# EAGLE library part AP65200 (library we-power)
Diodes AP65200 Step-Down (340kHz, 2A, 4.7-18V input) 5.0V - R1=44.2k, R2=10k or R1=62k, R2=14k 3.3V - R1=26.1k, R2=10k or R1=39k, R2=15k 2.5V - R1=16.9k, R2=10k L=10uH, Cin=22uF, Cout=47uF, Cc=6.8nF, Rc=6.8k SO08-PAD compatible Switching Converters AP65200 - 340kHz, 2A, 4.7-18V input AP6502 - 340kHz, 2A, 4.7-18V input AP6502A - 240kHz, 2A, 4.7-23V input AP3502E/F - 340kHz, 2A, 4.5-18V input AP3512E - 500kHz, 2A, 4.5-18V input AP3503E/F - 340kHz, 3A, 4.5-18V input AP3513E - 500kHz, 3A, 4.5-18V input AP6503 - 340kHz, 3A, 4.7-18V input AP6503A - 240kHz, 3A, 4.7-23V input AP65400 - 340kHz, 4A, 4.7-18V input AP65402 - 500kHz, 4A, 4.7-17V input AP65403 - 750kHz, 4A, 4.7-18V input AP65500 - 340kHz, 5A, 4.7-18V input AP65502 - 500kHz, 5A, 4.7-17V input AP65503 - 750kHz, 5A, 4.7-17V input
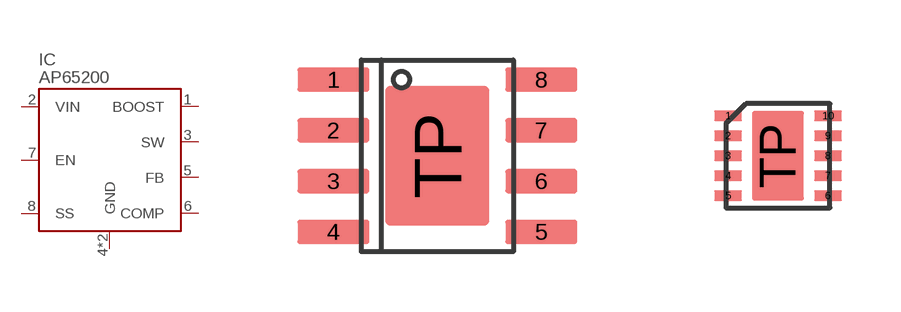
[diagram p2: symbol with the pads of SO08-PAD; footprints SO08-PAD, UDFN10_26X26]

Designator prefix IC

## AP65200-SP  [SO08-PAD]
1  BOOST  pas
2  VIN  pwr
3  SW  pas
4  GND  pwr
5  FB  pas
6  COMP  pas
7  EN  pas
8  SS  pas
TP  GND  pwr

## AP65200-FK  [UDFN10_26X26]
1  GND  pwr
2  BOOST  pas
3  VIN  pwr
4  SW  pas
5  GND  pwr
6  GND  pwr
7  FB  pas
8  COMP  pas
9  EN  pas
10  SS  pas
TP  GND  pwr

## AP65200-MP  [MSOP08-PAD]
Pads as for SO08-PAD

## Footprint SO08-PAD (pad centres in mm)
smd 1.8 x 0.6: 1 -2.6,1.905; 2 -2.6,0.635; 3 -2.6,-0.635; 4 -2.6,-1.905; 5 2.6,-1.905; 6 2.6,-0.635; 7 2.6,0.635; 8 2.6,1.905
smd 2.6 x 3.5: TP 0,0

## Footprint UDFN10_26X26 (pad centres in mm)
smd 0.7 x 0.28: 1 -1.25,1; 2 -1.25,0.5; 3 -1.25,0; 4 -1.25,-0.5; 5 -1.25,-1; 6 1.25,-1; 7 1.25,-0.5; 8 1.25,0; 9 1.25,0.5; 10 1.25,1
smd 1.3 x 2.25: TP 0,0

## Footprint MSOP08-PAD (pad centres in mm)
smd 1.4 x 0.4: 1 -2.15,0.975; 2 -2.15,0.325; 3 -2.15,-0.325; 4 -2.15,-0.975; 5 2.15,-0.975; 6 2.15,-0.325; 7 2.15,0.325; 8 2.15,0.975
smd 1.7 x 2: TP 0,0